# Altium footprint library PDIP18.PcbLib: 1 footprints
Each footprint in its own frame and in the unit in brackets; x right, y up, seen from the top. Pads: shape width x height; smd on the part's side, far side on the other; paste and mask are expansions set on the pad; w line width, h text height; cw(c..) or ccw(c..) is an arc to the next point about the centre after c.
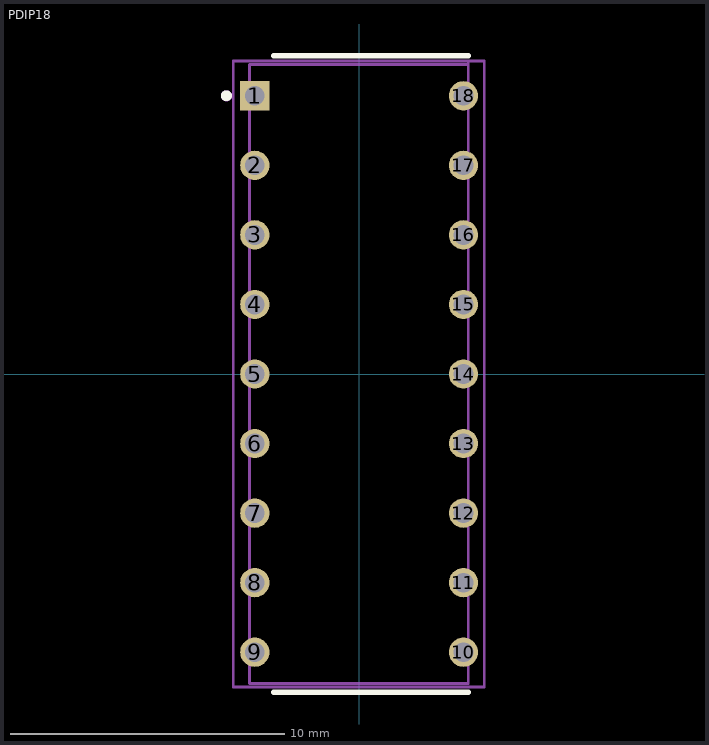
[diagram p0: the footprint, top view; thin cyan lines are the x and y axes]

## PDIP18 [mm]
pads (18):
  rect 1.07x1.07 hole 0.72: 1(-3.81,10.16)
  round 1.07 hole 0.72: 2(-3.81,7.62) 3(-3.81,5.08) 4(-3.81,2.54) 5(-3.81,0) 6(-3.81,-2.54) 7(-3.81,-5.08) 8(-3.81,-7.62) 9(-3.81,-10.16) 10(3.81,-10.16) 11(3.81,-7.62) 12(3.81,-5.08) 13(3.81,-2.54) 14(3.81,0) 15(3.81,2.54) 16(3.81,5.08) 17(3.81,7.62) 18(3.81,10.16)
Top Overlay:
  circle w0.3: c-4.845,10.16 r0.049
  lines w0.2: -3.11,-11.62 3.99,-11.62 ; -3.11,11.62 3.99,11.62
Top Assembly:
  circle w0.2: c-4.845,10.16 r0.1
  circle w0.2: c-4.845,10.16 r0.1
  lines w0.1: 3.99,11.43 3.99,-11.303 ; 3.99,-11.303 -3.999,-11.303 -3.999,11.303 3.99,11.303 3.99,-11.303
Top Courtyard:
  lines w0.1: -4.595,-11.43 -4.595,11.43 4.572,11.43 4.572,-11.43 -4.595,-11.43
3D body "DIP18.STEP": height 4.7, standoff -2.6, extent -3.935,-11.25 3.935,11.25